# Altium schematic symbol library XTPS62933DRLR.SchLib: 2 symbols
Pins are listed as number, name and electrical type; pins without a type are passive.

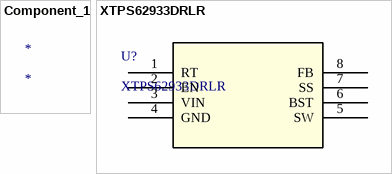
[diagram p0: symbols Component_1 to XTPS62933DRLR]

## Component_1
designator *

## XTPS62933DRLR
designator U?
No Description Available; Mfr_Name: Texas Instruments; Copyright: Copyright (C) 2022 Ultra Librarian. All rights reserved.; Manufacturer_Part_Number: XTPS62933DRLR; RefDes: RefDes; Type: DEV
footprint SOT_33DRLR_TEX
pins: 1 RT, 2 EN, 3 VIN, 4 GND, 5 SW, 6 BST, 7 SS, 8 FB